# EAGLE library part MICRO_SD_SLOT_1040310811 (library smart-glasses)
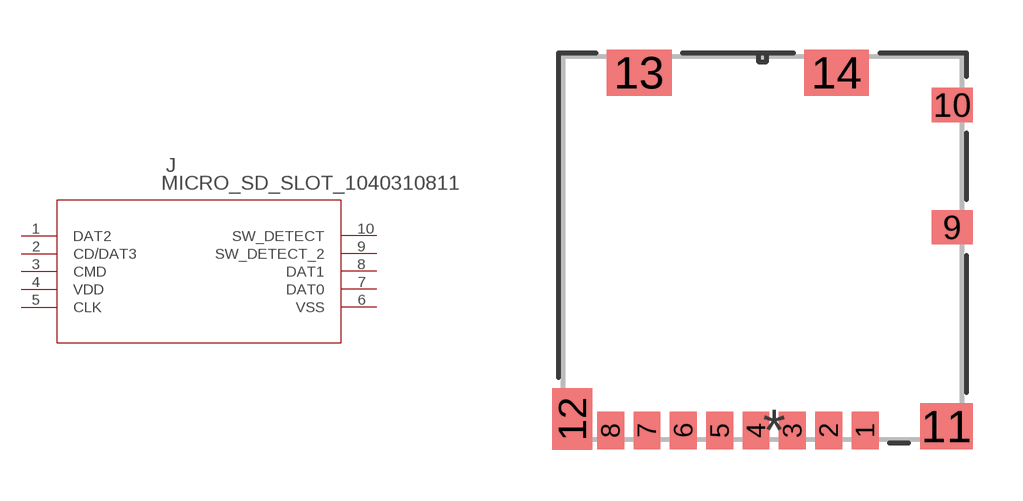
[diagram p1: symbol with the pads of MICRO_SD_SLOT_104031-0811_MOL; footprint MICRO_SD_SLOT_104031-0811_MOL]

Designator prefix J

## MICRO_SD_SLOT_1040310811 (COPYRIGHT: Copyright (C) 2021 Ultra Librarian. All rights reserved.; MANUFACTURER_PART_NUMBER: 1040310811; MFR_NAME: Molex Connector Corporation)  [MICRO_SD_SLOT_104031-0811_MOL]
1  DAT2
2  CD/DAT3
3  CMD  pas
4  VDD  pwr
5  CLK  pas
6  VSS  pas
7  DAT0
8  DAT1
9  SW_DETECT_2  pas
10  SW_DETECT  pas

## Footprint MICRO_SD_SLOT_104031-0811_MOL (pad centres in mm)
smd 0.813 x 1.143: 1 3.105,-5.521; 2 2.005,-5.521; 3 0.905,-5.521; 4 -0.195,-5.521; 5 -1.295,-5.521; 6 -2.395,-5.521; 7 -3.495,-5.521; 8 -4.595,-5.521
smd 1.245 x 1.041: 9 5.74,0.628; 10 5.74,4.329
smd 1.6 x 1.397: 11 5.565,-5.396
smd 1.219 x 1.854: 12 -5.755,-5.171
smd 1.956 x 1.397: 13 -3.73,5.303; 14 2.24,5.303